# Altium schematic symbol library FTSH-105-01-XXX-DV-K.SCHLIB: 4 symbols
Pins are listed as number, name and electrical type; pins without a type are passive.

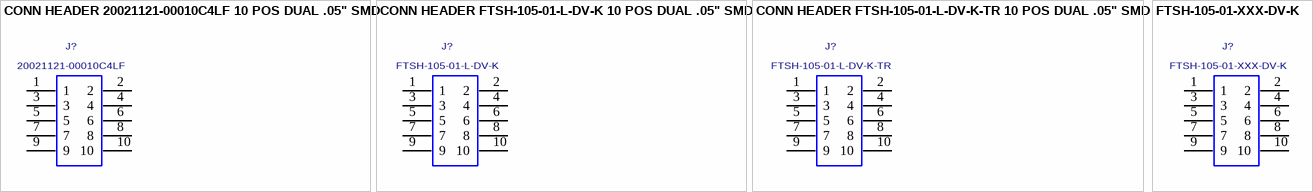
[diagram p0: symbols CONN HEADER 20021121-00010C4LF 10 POS DUAL .05" SMD to FTSH-105-01-XXX-DV-K]

## CONN HEADER 20021121-00010C4LF 10 POS DUAL .05" SMD
designator J?, comment 20021121-00010C4LF
Connector Header Surface Mount 10 position 0.050" (1.27mm); Manufacturer 1: Amphenol ICC (FCI); Part Number 1: FTSH-105-01-L-DV-K-TR
footprint FTSH-105-01-L-DV-K
pins: 1, 2, 3, 4, 5, 6, 7, 8, 9, 10

## CONN HEADER FTSH-105-01-L-DV-K 10 POS DUAL .05" SMD
designator J?, comment FTSH-105-01-L-DV-K
10 Positions Header, Cuttable Connector 0.050" (1.27mm) Surface Mount Gold; Manufacturer 1: Samtec Inc.; Part Number 1: FTSH-105-01-L-DV-K-TR; Supplier 1: Digi-Key; Supplier 2: Digi-Key; Supplier 3: Digi-Key; Supplier 4: Mouser; Supplier 5: Arrow; Supplier Part Number 5: FTSH-105-01-L-DV-K-TR; Supplier Part Number 4: 200-FTSH10501LDVKTR; Supplier Part Number 3: SAM13165TR-ND; Supplier Part Number 2: SAM13165DKR-ND; Supplier Part Number 1: SAM13165CT-ND
footprint FTSH-105-01-L-DV-K
pins: 1, 2, 3, 4, 5, 6, 7, 8, 9, 10

## CONN HEADER FTSH-105-01-L-DV-K-TR 10 POS DUAL .05" SMD
designator J?, comment FTSH-105-01-L-DV-K-TR
Connector Header Surface Mount 10 position 0.050" (1.27mm); Manufacturer 1: Samtec Inc.; Part Number 1: FTSH-105-01-L-DV-K-TR; Supplier 1: Digi-Key; Supplier 2: Digi-Key; Supplier 3: Digi-Key; Supplier 4: Mouser; Supplier 5: Arrow; Supplier 6: Avnet; Supplier 7: RSComponents; Supplier 8: RSComponents; Supplier 9: Digi-Key; Supplier 10: Farnell; Supplier 11: Farnell; Supplier 12: Newark; Supplier 13: Newark; Supplier Part Number 9: FTSH-105-01-L-DV-K-TR-ND; Supplier Part Number 8: 1803002; Supplier Part Number 7: 1802590; Supplier Part Number 6: FTSH-105-01-L-DV-K-TR; Supplier Part Number 5: FTSH-105-01-L-DV-K-TR; Supplier Part Number 4: 200-FTSH10501LDVKTR; Supplier Part Number 3: SAM13165TR-ND; Supplier Part Number 2: SAM13165DKR-ND; Supplier Part Number 13: 01R3466; Supplier Part Number 12: 25AC9623; Supplier Part Number 11: 2505054; Supplier Part Number 10: 2415852; Supplier Part Number 1: SAM13165CT-ND
footprint FTSH-105-01-L-DV-K
pins: 1, 2, 3, 4, 5, 6, 7, 8, 9, 10

## FTSH-105-01-XXX-DV-K
designator J?
TERMINAL STRIP, .050"(1.27mm) PITCH, 10 PINS, KEYED; MANUFACTURER: SAMTEC; CREATED: November 30, 2016 - Wendy Xin; PCB DECAL: FTSH-105-01-XXX-DV-K
footprint FTSH-105-01-XXX-DV-K
pins: 1, 2, 3, 4, 5, 6, 7, 8, 9, 10